# EAGLE library part EXPANSION_PORT_CC40_EDGE (library ti-cc40)
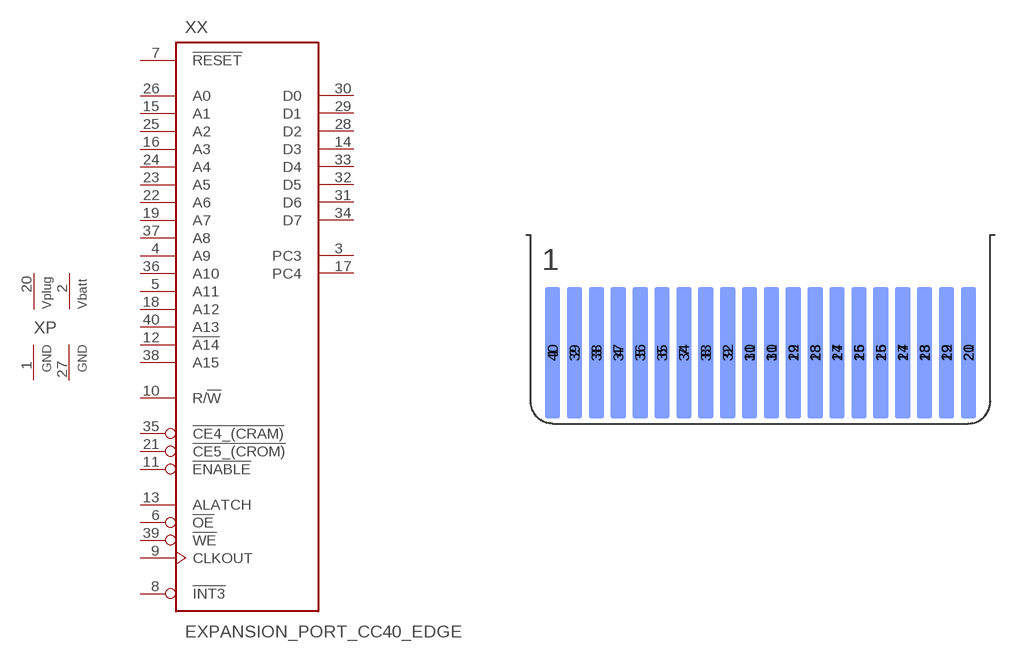
[diagram p0: symbol with the pads of MA20-2(.050); footprint MA20-2(.050)]

Designator prefix X; gates X=EXPANSION_PORT_CC40_EDGE P=2PWR2GND

## EXPANSION_PORT_CC40_EDGE  [MA20-2(.050)]
1  P:GND  pwr
2  P:VBATT  pwr
3  X:PC3
4  X:A9  out
5  X:A11  out
6  X:!OE  out
7  X:!RESET  oc
8  X:!INT3  oc
9  X:CLKOUT  out
10  X:R/!W  out
11  X:!ENABLE  out
12  X:!A14  out
13  X:ALATCH  out
14  X:D3
15  X:A1  out
16  X:A3  out
17  X:PC4
18  X:A12  out
19  X:A7  out
20  P:VPLUG  pwr
21  X:!CE5_(CROM)  out
22  X:A6  out
23  X:A5  out
24  X:A4  out
25  X:A2  out
26  X:A0  out
27  P:GND  pwr
28  X:D2
29  X:D1
30  X:D0
31  X:D6
32  X:D5
33  X:D4
34  X:D7
35  X:!CE4_(CRAM)  out
36  X:A10  pas
37  X:A8  out
38  X:A15  out
39  X:!WE  out
40  X:A13  out

## Footprint MA20-2(.050) (pad centres in mm)
smd 0.889 x 7.62: 1 -12.065,0.305; 2 -10.795,0.305; 3 -9.525,0.305; 4 -8.255,0.305; 5 -6.985,0.305; 6 -5.715,0.305; 7 -4.445,0.305; 8 -3.175,0.305; 9 -1.905,0.305; 10 -0.635,0.305; 11 0.635,0.305; 12 1.905,0.305; 13 3.175,0.305; 14 4.445,0.305; 15 5.715,0.305; 16 6.985,0.305; 17 8.255,0.305; 18 9.525,0.305; 19 10.795,0.305; 20 12.065,0.305
smd 0.889 x 7.62 bottom: 21 12.065,0.305; 22 10.795,0.305; 23 9.525,0.305; 24 8.255,0.305; 25 6.985,0.305; 26 5.715,0.305; 27 4.445,0.305; 28 3.175,0.305; 29 1.905,0.305; 30 0.635,0.305; 31 -0.635,0.305; 32 -1.905,0.305; 33 -3.175,0.305; 34 -4.445,0.305; 35 -5.715,0.305; 36 -6.985,0.305; 37 -8.255,0.305; 38 -9.525,0.305; 39 -10.795,0.305; 40 -12.065,0.305